# EAGLE library part LTP-305TESTES (library gee_s)
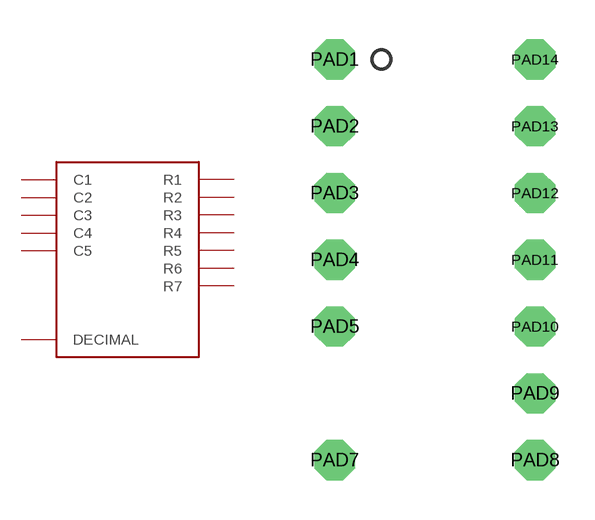
[diagram p35: symbol with the pads of LTP-305; footprint LTP-305]

Designator prefix -

## LTP-305TESTES  [LTP-305]
PAD1  C2
PAD2  R1
PAD3  R3
PAD4  R4
PAD5  C1
PAD7  DECIMAL
PAD8  C3
PAD9  R7
PAD10  R6
PAD11  R5
PAD12  R2
PAD13  C5
PAD14  C4

## Footprint LTP-305 (pad centres in mm)
drill 1.016 octagon: PAD1 -3.81,7.62; PAD2 -3.81,5.08; PAD3 -3.81,2.54; PAD4 -3.81,0; PAD5 -3.81,-2.54; PAD7 -3.81,-7.62; PAD8 3.81,-7.62; PAD9 3.81,-5.08; PAD10 3.81,-2.54; PAD11 3.81,0; PAD12 3.81,2.54; PAD13 3.81,5.08; PAD14 3.81,7.62